# EAGLE library part 418217270906A (library Wurth_Elektronik_Electromechanic_Switch_rev17b)
WE-DITU Right angle type, THT version, raise Actuator without top tape sealed Specification Contact Rating Switching : 25mA, 24VDC Non-Switching : 100mA, 50VDC Contact Resistance Initial: 50mΩ max. After life test : 100mΩ max. Insulation Resistance : min. 100MΩ at 500VDC Dielectric Strength : 500VAC for 1 minute Operation Force : 800g max. Mechanical Life : 2000 cycles Electrical Life : 2000 cycles / 25mA, 24VDC Raise Actuator type Material Cover : PBT UL 94 V-0, color Red Base : PBT UL 94 V-0, color Black Actuator : PBT UL 94 V-0, color White Contact : Gold Plated Terminal : Gold Plated Details see: http://katalog.we-online.de/en/em/DITU_2_54_COMPACT_THT_RIGHT_ANGLED_WITH_RAISED_ACTUATOR_A_TYPE/418217270906A Created by :Yingchun,Shan 2017 (C) Wurth Elektronik
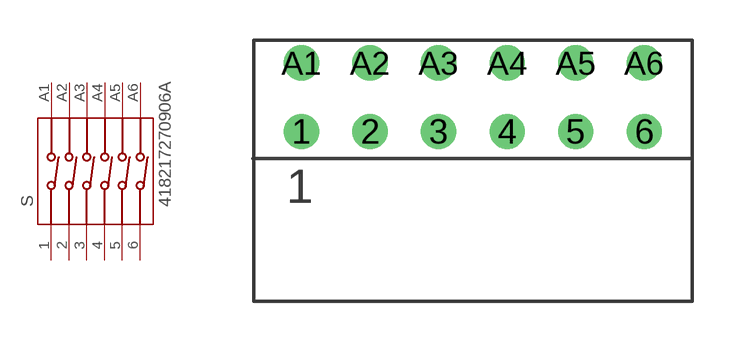
[diagram p168: symbol with the pads of 418217270906A; footprint 418217270906A]

Designator prefix S

## 418217270906A  [418217270906A]
1  1  pas
2  2  pas
3  3  pas
4  4  pas
5  5  pas
6  6  pas
A1  A1  pas
A2  A2  pas
A3  A3  pas
A4  A4  pas
A5  A5  pas
A6  A6  pas

## Footprint 418217270906A (pad centres in mm)
drill 0.8: 1 -6.35,-1.27; 2 -3.81,-1.27; 3 -1.27,-1.27; 4 1.27,-1.27; 5 3.81,-1.27; 6 6.35,-1.27; A1 -6.35,1.27; A2 -3.81,1.27; A3 -1.27,1.27; A4 1.27,1.27; A5 3.81,1.27; A6 6.35,1.27